# Altium footprint library manual.PcbLib: 6 footprints
Each footprint in its own frame and in the unit in brackets; x right, y up, seen from the top. Pads: shape width x height; smd on the part's side, far side on the other; paste and mask are expansions set on the pad; w line width, h text height; cw(c..) or ccw(c..) is an arc to the next point about the centre after c.
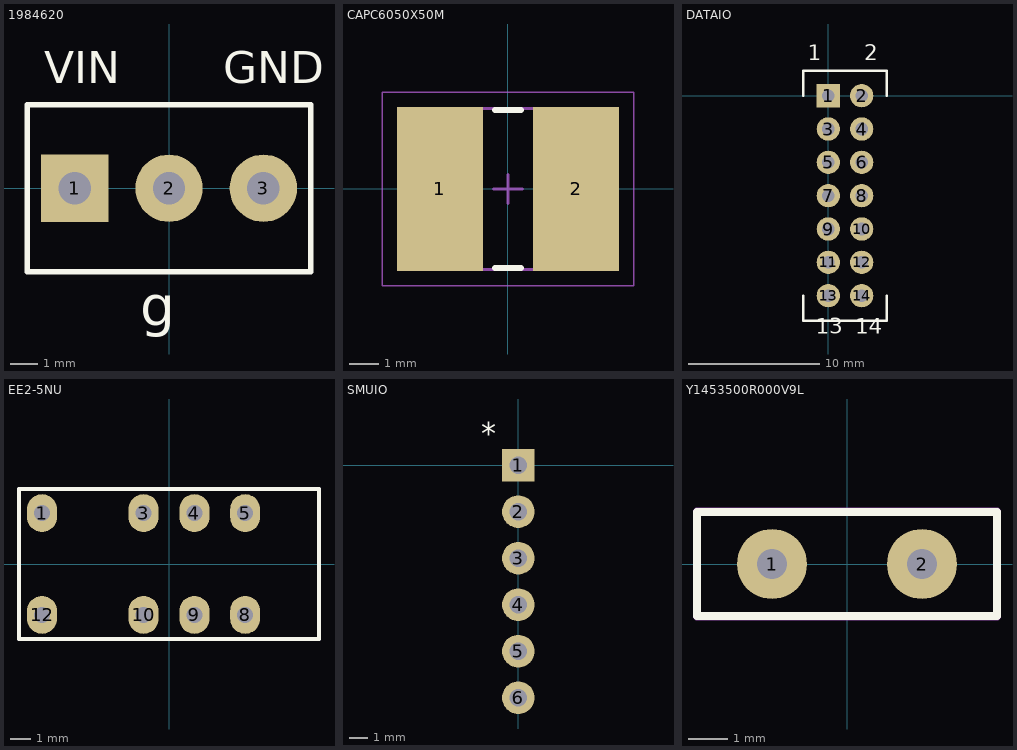
[diagram p0: the footprints below, top view; thin cyan lines are the x and y axes]

## 1984620 [mm]
pads (3):
  rect 2.5x2.5 hole 1.2: 1(-3.5,0)
  round 2.5 hole 1.2: 2(0,0) 3(3.5,0)
Top Overlay:
  lines w0.203: -5.25,-3.1 -5.25,3.1 5.25,3.1 5.25,-3.1 -5.25,-3.1
  text "VIN" at -4.633,3.5 h2.03
  text "GND" at 2.003,3.5 h2.03
  text "g" at -1.061,-5.588 h2.54

## CAPC6050X50M [mm] "Chip Capacitor, 2-Leads, Body 6.00x5.00mm, IPC Low Density"
height 5
pads (2):
  rect 2.95x5.6 smd: 1(-2.325,0) 2(2.325,0)
Top Overlay:
  lines w0.2: -0.45,-2.7 0.45,-2.7 ; -0.45,2.7 0.45,2.7
Mechanical 13:
  lines w0.1: -3.25,-2.75 3.25,-2.75 3.25,2.75 -3.25,2.75 -3.25,-2.75
Mechanical 15:
  lines w0.05: -4.3,-3.3 4.3,-3.3 4.3,3.3 -4.3,3.3 -4.3,-3.3
  lines w0.1: -0.5,0 0.5,0 ; 0,-0.5 0,0.5
3D body: height 5, standoff 0, extent 1.65,-2.75 3.25,2.75
3D body: height 5, standoff 0, extent -3.25,-2.75 -1.65,2.75
3D body: height 5, standoff 0, extent -1.65,-2.75 1.65,2.75

## DATAIO [mil]
pads (14):
  rect 70x70 hole 38: 1(0,0)
  round 70 hole 38: 2(100,0) 3(0,-100) 4(100,-100) 5(0,-200) 6(100,-200) 7(0,-300) 8(100,-300) 9(0,-400) 10(100,-400) 11(0,-500) 12(100,-500) 13(0,-600) 14(100,-600)
Top Overlay:
  lines w8: -75,-600 -75,-675 175,-675 175,-600 ; -75,0 -75,75 175,75 175,0
  text "14" at 80.57,-730 h80
  text "13" at -38.4,-730 h80
  text "2" at 107.06,90 h80
  text "1" at -61.95,90 h80

## EE2-5NU [mm]
pads (8):
  oval 1.5x1.9 hole 0.8: 1(-6.35,2.54) 3(-1.27,2.54) 4(1.27,2.54) 5(3.81,2.54) 8(3.81,-2.54) 9(1.27,-2.54) 10(-1.27,-2.54) 12(-6.35,-2.54)
Top Overlay:
  lines w0.203: -7.5,-3.75 -7.5,3.75 ; -7.5,-3.75 -7.5,3.75 ; -7.5,-3.75 7.5,-3.75 ; -7.5,-3.75 7.5,-3.75 ; -7.5,3.75 7.5,3.75 ; -7.5,3.75 7.5,3.75 ; 7.5,-3.75 7.5,3.75 ; 7.5,-3.75 7.5,3.75
Mechanical 1:
  lines w0.203: -7.5,-3.75 -7.5,3.75 7.5,3.75 7.5,-3.75 -7.5,-3.75
3D body: height 9.4, standoff 0, extent -7.5,-3.75 7.5,3.75

## SMUIO [mil]
pads (6):
  rect 70x70 hole 38: 1(0,0)
  round 70 hole 38: 2(0,-100) 3(0,-200) 4(0,-300) 5(0,-400) 6(0,-500)
Top Overlay:
  text "*" at -79.43,30 h80

## Y1453500R000V9L [mil]
pads (2):
  round 70 hole 30: 1(-75,0) 2(75,0)
Top Overlay:
  lines w8: -150,-52 -150,42 -150,52 150,52 150,-52 -150,-52
Mechanical 1:
  lines w8: -150,-52.5 -150,52.5 150,52.5 150,-52.5 -150,-52.5
3D body: height 325, standoff 0, extent -150,-52.5 150,52.5